# EAGLE library part SY55858U (library micrel_crosspointswitch)
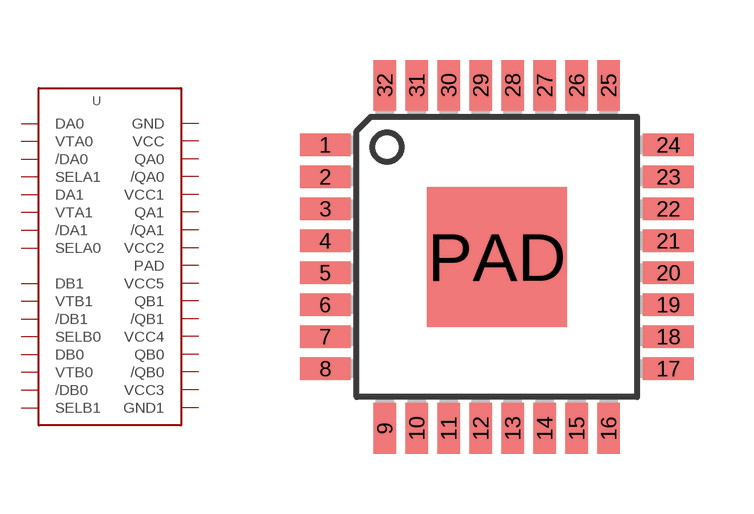
[diagram p0: symbol with the pads of TQFP-32; footprint TQFP-32]

Designator prefix -

## SY55858U  [TQFP-32]
1  DB1
2  VTB1
3  /DB1
4  SELB0
5  DB0
6  VTB0
7  /DB0
8  SELB1
9  GND1  pwr
10  VCC3  pwr
11  /QB0
12  QB0
13  VCC4  pwr
14  /QB1
15  QB1
16  VCC5  pwr
17  VCC2  pwr
18  /QA1
19  QA1
20  VCC1  pwr
21  /QA0
22  QA0
23  VCC  pwr
24  GND  pwr
25  DA0
26  VTA0
27  /DA0
28  SELA1
29  DA1
30  VTA1
31  /DA1
32  SELA0
PAD  PAD  pwr

## Footprint TQFP-32 (pad centres in mm)
smd 1.27 x 0.559: 1 -4.293,2.8; 2 -4.293,2; 3 -4.293,1.2; 4 -4.293,0.4; 5 -4.293,-0.4; 6 -4.293,-1.2; 7 -4.293,-2; 8 -4.293,-2.8; 17 4.293,-2.8; 18 4.293,-2; 19 4.293,-1.2; 20 4.293,-0.4; 21 4.293,0.4; 22 4.293,1.2; 23 4.293,2; 24 4.293,2.8
smd 0.559 x 1.27: 9 -2.8,-4.293; 10 -2,-4.293; 11 -1.2,-4.293; 12 -0.4,-4.293; 13 0.4,-4.293; 14 1.2,-4.293; 15 2,-4.293; 16 2.8,-4.293; 25 2.8,4.293; 26 2,4.293; 27 1.2,4.293; 28 0.4,4.293; 29 -0.4,4.293; 30 -1.2,4.293; 31 -2,4.293; 32 -2.8,4.293
smd 3.5 x 3.5: PAD 0,0